# Altium footprint library Inductor_buzzer.PcbLib: 1 footprints
Each footprint in its own frame and in the unit in brackets; x right, y up, seen from the top. Pads: shape width x height; smd on the part's side, far side on the other; paste and mask are expansions set on the pad; w line width, h text height; cw(c..) or ccw(c..) is an arc to the next point about the centre after c.
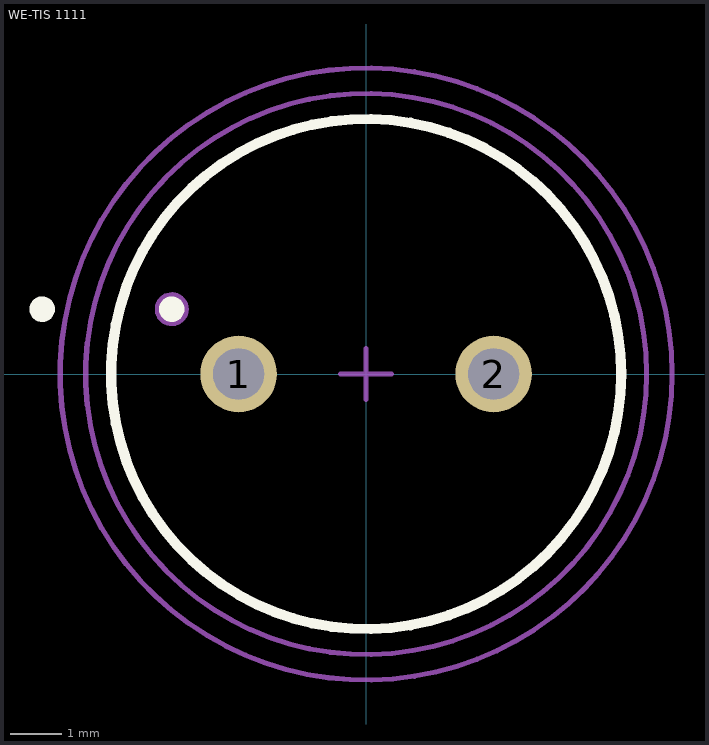
[diagram p0: the footprint, top view; thin cyan lines are the x and y axes]

## WE-TIS 1111 [mm] "THT, 2-Leads, Body 11,0x11,0mm, Pitch 5mm"
height 11.5
pads (2):
  round 1.5 hole 1: 1(-2.5,0) 2(2.5,0)
Top Overlay:
  circle w0.25: c-3.81,1.27 r0.125
  circle w0.2: c0,0 r5
  circle w0.25: c-6.35,1.27 r0.125
Mechanical 13:
  circle w0.1: c-3.81,1.27 r0.284
  circle w0.1: c0,0 r5.5
Mechanical 15:
  circle w0.1: c0,0 r6
  lines w0.1: -0.5,0 0.5,0 ; 0,-0.5 0,0.5
3D body "7447471xxx.stp": height 10.5, standoff -3.5, extent -7.461,-7.495 7.529,7.495